# EAGLE library part NHD-3.5-320240FT (library BW-Active)
SPI 3.5" LCD, 320x240, resistive touch
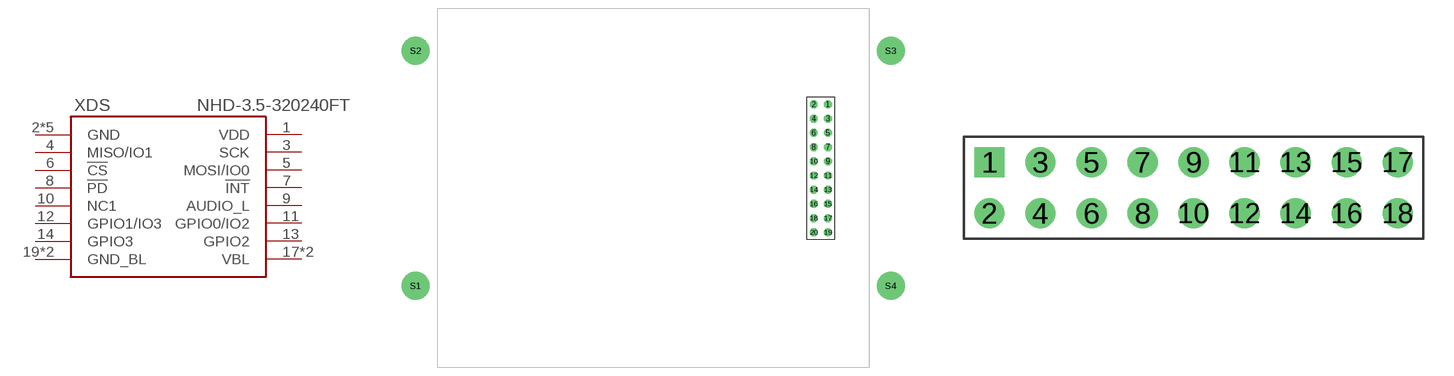
[diagram p54: symbol with the pads of NHD-3.5-320240FT; footprints NHD-3.5-320240FT, 2X9PIN]

Designator prefix XDS

## NHD-3.5-320240FT  [NHD-3.5-320240FT]
1  VDD  pwr
2  GND  pwr
3  SCK
4  MISO/IO1
5  MOSI/IO0
6  !CS
7  !INT
8  !PD
9  AUDIO_L
10  NC1
11  GPIO0/IO2
12  GPIO1/IO3
13  GPIO2
14  GPIO3
17  VBL  pwr
18  VBL  pwr
19  GND_BL
20  GND_BL
S1  GND  pwr
S2  GND  pwr
S3  GND  pwr
S4  GND  pwr

## NHD-3.5-320240FT-CON  [2X9PIN]
1  GND  pwr
2  VDD  pwr
3  NC1
4  SCK
5  MISO/IO1
6  MOSI/IO0
7  !CS
8  !INT
9  !PD
10  AUDIO_L
11  GPIO0/IO2
12  GPIO1/IO3
13  GPIO2
14  GPIO3
15  VBL  pwr
16  GND_BL
17  VBL  pwr
18  GND_BL

## NHD-3.5-320240FT-FPCV  [FFC3A20-20]
A1  VDD  pwr
A2  GND  pwr
A3  SCK
A4  MISO/IO1
A5  MOSI/IO0
A6  !CS
A7  !INT
A8  !PD
A9  AUDIO_L
A10  NC1
A11  GPIO0/IO2
A12  GPIO1/IO3
A13  GPIO2
A14  GPIO3
A17  VBL  pwr
A18  VBL  pwr
A19  GND_BL
A20  GND_BL
B1  VDD  pwr
B2  GND  pwr
B3  SCK
B4  MISO/IO1
B5  MOSI/IO0
B6  !CS
B7  !INT
B8  !PD
B9  AUDIO_L
B10  NC1
B11  GPIO0/IO2
B12  GPIO1/IO3
B13  GPIO2
B14  GPIO3
B17  VBL  pwr
B18  VBL  pwr
B19  GND_BL
B20  GND_BL

## Footprint NHD-3.5-320240FT (pad centres in mm)
drill 0.9 octagon: 1 69.67,46.88; 2 67.13,46.88; 3 69.67,44.34; 4 67.13,44.34; 5 69.67,41.8; 6 67.13,41.8; 7 69.67,39.26; 8 67.13,39.26; 9 69.67,36.72; 10 67.13,36.72; 11 69.67,34.18; 12 67.13,34.18; 13 69.67,31.64; 14 67.13,31.64; 15 69.67,29.1; 16 67.13,29.1; 17 69.67,26.56; 18 67.13,26.56; 19 69.67,24.02; 20 67.13,24.02
drill 3.5 pad 5: S1 -4,14.45; S2 -4,56.45; S3 80.9,56.45; S4 80.9,14.45

## Footprint 2X9PIN (pad centres in mm)
drill 1 square: 1 -8.89,1.27
drill 1: 2 -8.89,-1.27; 3 -6.35,1.27; 4 -6.35,-1.27; 5 -3.81,1.27; 6 -3.81,-1.27; 7 -1.27,1.27; 8 -1.27,-1.27; 9 1.27,1.27; 10 1.27,-1.27; 11 3.81,1.27; 12 3.81,-1.27; 13 6.35,1.27; 14 6.35,-1.27; 15 8.89,1.27; 16 8.89,-1.27; 17 11.43,1.27; 18 11.43,-1.27

## Footprint FFC3A20-20 (pad centres in mm)
smd 0.6 x 2: A1 -9.5,1.75; A2 -8.5,1.75; A3 -7.5,1.75; A4 -6.5,1.75; A5 -5.5,1.75; A6 -4.5,1.75; A7 -3.5,1.75; A8 -2.5,1.75; A9 -1.5,1.75; A10 -0.5,1.75; A11 0.5,1.75; A12 1.5,1.75; A13 2.5,1.75; A14 3.5,1.75; A15 4.5,1.75; A16 5.5,1.75; A17 6.5,1.75; A18 7.5,1.75; A19 8.5,1.75; A20 9.5,1.75; B1 -9.5,-1.75; B2 -8.5,-1.75; B3 -7.5,-1.75; B4 -6.5,-1.75; B5 -5.5,-1.75; B6 -4.5,-1.75; B7 -3.5,-1.75; B8 -2.5,-1.75; B9 -1.5,-1.75; B10 -0.5,-1.75; B11 0.5,-1.75; B12 1.5,-1.75; B13 2.5,-1.75; B14 3.5,-1.75; B15 4.5,-1.75; B16 5.5,-1.75; B17 6.5,-1.75; B18 7.5,-1.75; B19 8.5,-1.75; B20 9.5,-1.75